# EAGLE library part WE-RJ45-LAN-10/100/1000-BT-WITH-USB3.0-7497110616 (library PowerMagnetics)
Order Code 7497110616 Design THT xBase-T 10/100/1000 Base-T Ports 1x1 +2USB Application Standard USB3.0 Tab Position UP LED (Left-Right) YELLOW-GREEN/OANGE EMI Fingers NO <http://katalog.we-online.de/media/images/eisos/UtLAN_RJ45_pf2.jpg> Details see: http://katalog.we-online.de/en/pbs/WE-LAN_RJ45/7497110616? Updated by Dan Xu 2014-07-10 2014 (C) Würth Elektronik
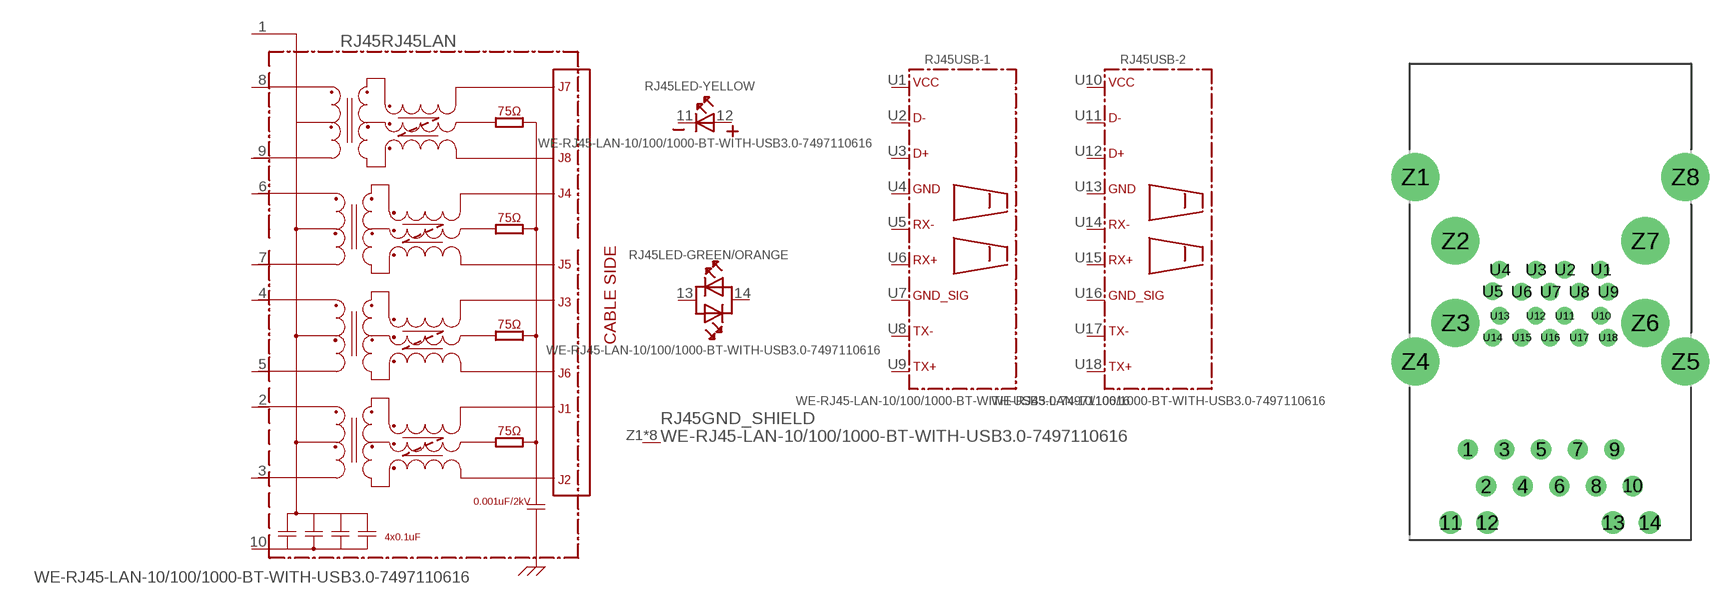
[diagram p103: symbol with the pads of 7497110616; footprint 7497110616]

Designator prefix RJ45; gates RJ45LAN=7497110616 LED-YELLOW=LED-2PIN LED-GREEN/ORANGE=LED-DUAL USB-1=USB-3.0 USB-2=USB-3.0 GND_SHIELD=GND_PIN

## WE-RJ45-LAN-10/100/1000-BT-WITH-USB3.0-7497110616 (COMPANY-URL: http://www.we-online.de; CREATED-BY: Christin Zierenner; CREATED-DATE: AUG 2012; DATASHEET-URL: http://katalog.we-online.de/kataloge/eisos/media/pdf/7497110616.pdf; MANUFACTURER: Würth Elektronik eiSos GmbH)  [7497110616]
1  RJ45LAN:1
2  RJ45LAN:2
3  RJ45LAN:3
4  RJ45LAN:4
5  RJ45LAN:5
6  RJ45LAN:6
7  RJ45LAN:7
8  RJ45LAN:8
9  RJ45LAN:9
10  RJ45LAN:10  pwr
11  LED-YELLOW:K
12  LED-YELLOW:A
13  LED-GREEN/ORANGE:AK1
14  LED-GREEN/ORANGE:AK2
U1  USB-1:VCC  pwr
U2  USB-1:D-
U3  USB-1:D+
U4  USB-1:GND  pwr
U5  USB-1:RX-
U6  USB-1:RX+
U7  USB-1:GND_SIG  pwr
U8  USB-1:TX-
U9  USB-1:TX+
U10  USB-2:VCC  pwr
U11  USB-2:D-
U12  USB-2:D+
U13  USB-2:GND  pwr
U14  USB-2:RX-
U15  USB-2:RX+
U16  USB-2:GND_SIG  pwr
U17  USB-2:TX-
U18  USB-2:TX+
Z1  GND_SHIELD:P$1  pwr
Z2  GND_SHIELD:P$1  pwr
Z3  GND_SHIELD:P$1  pwr
Z4  GND_SHIELD:P$1  pwr
Z5  GND_SHIELD:P$1  pwr
Z6  GND_SHIELD:P$1  pwr
Z7  GND_SHIELD:P$1  pwr
Z8  GND_SHIELD:P$1  pwr

## Footprint 7497110616 (pad centres in mm)
incomplete
drill 0.89: 1 -5.715,-18.88; 2 -4.445,-21.42; 3 -3.175,-18.88; 4 -1.905,-21.42; 5 -0.635,-18.88; 6 0.635,-21.42; 7 1.905,-18.88; 8 3.175,-21.42; 9 4.445,-18.88; 10 5.715,-21.42
drill 1.03: 11 -6.9,-23.96; 12 -4.36,-23.96; 13 4.36,-23.96; 14 6.9,-23.96
drill 0.7: U1 3.5,-6.43; U2 1,-6.43; U3 -1,-6.43; U4 -3.5,-6.43; U5 -4,-7.93; U6 -2,-7.96; U7 0,-7.96; U8 2,-7.96; U9 4,-7.96; U10 3.5,-9.63; U11 1,-9.63; U12 -1,-9.63; U13 -3.5,-9.63; U14 -4,-11.13; U15 -2,-11.13; U16 0,-11.13; U17 2,-11.13; U18 4,-11.13
drill 2.3: Z1 -9.35,0; Z2 -6.57,-4.43; Z3 -6.57,-10.11; Z4 -9.35,-12.78; Z5 9.35,-12.78; Z6 6.57,-10.11; Z7 6.57,-4.43; Z8 9.35,0